# EAGLE library part 93AA86C-I/MS (library Microchip_By_element14_Batch_1)
IC, EEPROM SERIAL 16KB, SMD
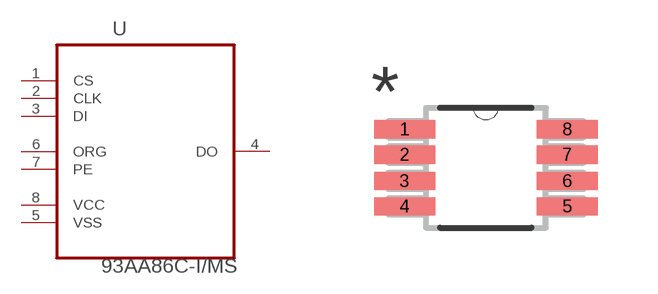
[diagram p211: symbol with the pads of SOP65P490X110-8N; footprint SOP65P490X110-8N]

Designator prefix U

## 93AA86C-I/MS (MPN: 93AA86C-I/MS; OC_FARNELL: 1331452; OC_NEWARK: 35M2488; PACKAGE: MSOP8; SUPPLIER: Microchip)  [SOP65P490X110-8N]
1  CS  in
2  CLK  in
3  DI  in
4  DO  out
5  VSS  pas
6  ORG  in
7  PE  in
8  VCC  pwr

## Footprint SOP65P490X110-8N (pad centres in mm)
smd 1.524 x 0.457: 1 -2.032,0.965; 2 -2.032,0.33; 3 -2.032,-0.33; 4 -2.032,-0.965; 5 2.032,-0.965; 6 2.032,-0.33; 7 2.032,0.33; 8 2.032,0.965